# EAGLE library part XFMR_POL07050 (library wheat)
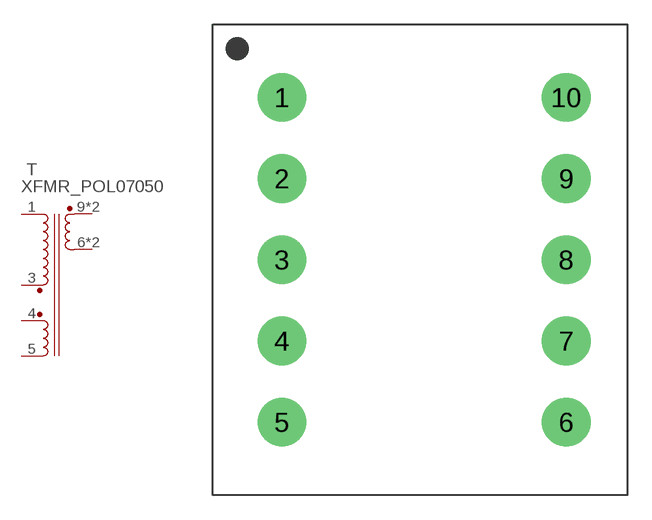
[diagram p284: symbol with the pads of XFMR_POL-07050; footprint XFMR_POL-07050]

Designator prefix T

## XFMR_POL07050  [XFMR_POL-07050]
1  PRIN  pas
3  PRIP  pas
4  AUXP  pas
5  AUXN  pas
6  SECN  pas
7  SECN  pas
9  SECP  pas
10  SECP  pas

## Footprint XFMR_POL-07050 (pad centres in mm)
drill 1.6 pad 3: 1 -8.75,10; 2 -8.75,5; 3 -8.75,0; 4 -8.75,-5; 5 -8.75,-10; 6 8.75,-10; 7 8.75,-5; 8 8.75,0; 9 8.75,5; 10 8.75,10